# EAGLE library part MOSFET-DUAL-NCHANNEL (library pixhawk2)
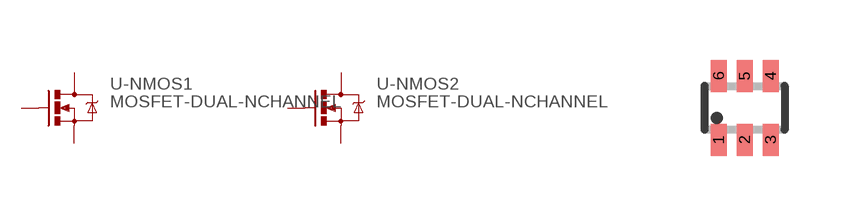
[diagram p59: symbol with the pads of SOT363_PHILIPS; footprint SOT363_PHILIPS]

Designator prefix -; gates -NMOS1=MOSFET-NCHANNEL -NMOS2=MOSFET-NCHANNEL

## MOSFET-DUAL-NCHANNEL-SOT363  [SOT363_PHILIPS]
1  -NMOS1:S  pas
2  -NMOS1:G  pas
3  -NMOS2:D  pas
4  -NMOS2:S  pas
5  -NMOS2:G  pas
6  -NMOS1:D  pas

## Footprint SOT363_PHILIPS (pad centres in mm)
Small Outline Transistor; 6 leads Philips Semiconductors, SOT363.pdf
smd 0.4 x 0.8: 1 -0.65,-0.8; 2 0,-0.8; 3 0.65,-0.8; 4 0.65,0.8; 5 0,0.8; 6 -0.65,0.8